# EAGLE library part ESP3212 (library kanflo)
ESP3212 Based drawing and photo on AI Thinkers Tobao store.
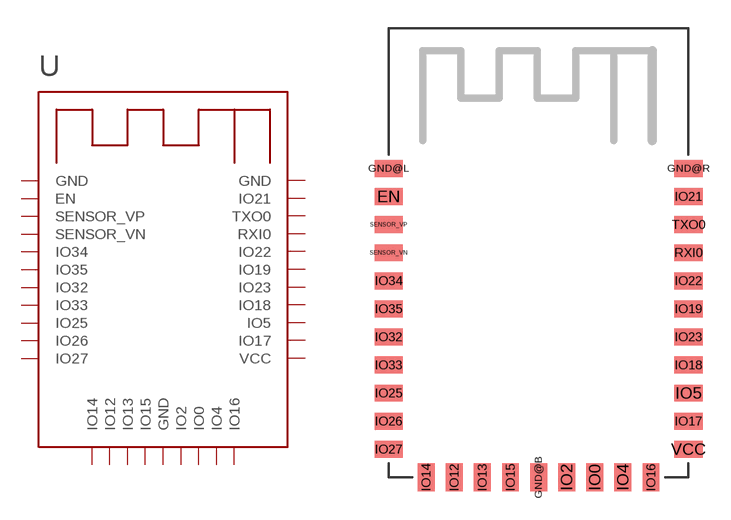
[diagram p14: symbol with the pads of ESP3212; footprint ESP3212]

Designator prefix U

## ESP3212  [ESP3212]
EN  EN
GND@B  GND  pwr
GND@L  GND  pwr
GND@R  GND  pwr
IO0  IO0
IO2  IO2
IO4  IO4
IO5  IO5
IO12  IO12
IO13  IO13
IO14  IO14
IO15  IO15
IO16  IO16
IO17  IO17
IO18  IO18
IO19  IO19
IO21  IO21
IO22  IO22
IO23  IO23
IO25  IO25
IO26  IO26
IO27  IO27
IO32  IO32
IO33  IO33
IO34  IO34
IO35  IO35
RXI0  RXI0
SENSOR_VN  SENSOR_VN
SENSOR_VP  SENSOR_VP
TXO0  TXO0
VCC  VCC  pwr

## Footprint ESP3212 (pad centres in mm)
smd 1.5 x 0.9: EN -8.81,5.96; GND@L -8.81,7.46; GND@R 7.19,7.46; IO5 7.19,-4.54; IO17 7.19,-6.04; IO18 7.19,-3.04; IO19 7.19,-0.04; IO21 7.19,5.96; IO22 7.19,1.46; IO23 7.19,-1.54; IO25 -8.81,-4.54; IO26 -8.81,-6.04; IO27 -8.81,-7.54; IO32 -8.81,-1.54; IO33 -8.81,-3.04; IO34 -8.81,1.46; IO35 -8.81,-0.04; RXI0 7.19,2.96; SENSOR_VN -8.81,2.96; SENSOR_VP -8.81,4.46; TXO0 7.19,4.46; VCC 7.19,-7.54
smd 0.9 x 1.5: GND@B -0.81,-9.04; IO0 2.19,-9.04; IO2 0.69,-9.04; IO4 3.69,-9.04; IO12 -5.31,-9.04; IO13 -3.81,-9.04; IO14 -6.81,-9.04; IO15 -2.31,-9.04; IO16 5.19,-9.04